# EAGLE library part BMI160 (library FaBo-Imu)
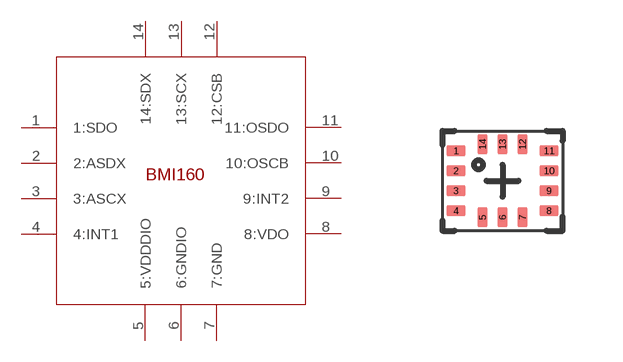
[diagram p0: symbol with the pads of LGA-14; footprint LGA-14]

Designator prefix -

## BMI160  [LGA-14]
1  1:SDO
2  2:ASDX
3  3:ASCX
4  4:INT1
5  5:VDDDIO
6  6:GNDIO
7  7:GND
8  8:VDO
9  9:INT2
10  10:OSCB
11  11:OSDO
12  12:CSB
13  13:SCX
14  14:SDX

## Footprint LGA-14 (pad centres in mm)
smd 0.475 x 0.25: 1 -1.163,0.75; 2 -1.163,0.25; 3 -1.163,-0.25; 4 -1.163,-0.75; 8 1.163,-0.75; 9 1.163,-0.25; 10 1.163,0.25; 11 1.163,0.75
smd 0.25 x 0.475: 5 -0.5,-0.912; 6 0,-0.912; 7 0.5,-0.912; 12 0.5,0.912; 13 0,0.912; 14 -0.5,0.912